# EAGLE library part HDLX2416 (library display-hp)
LED DISPLAY 4-character dot matrix
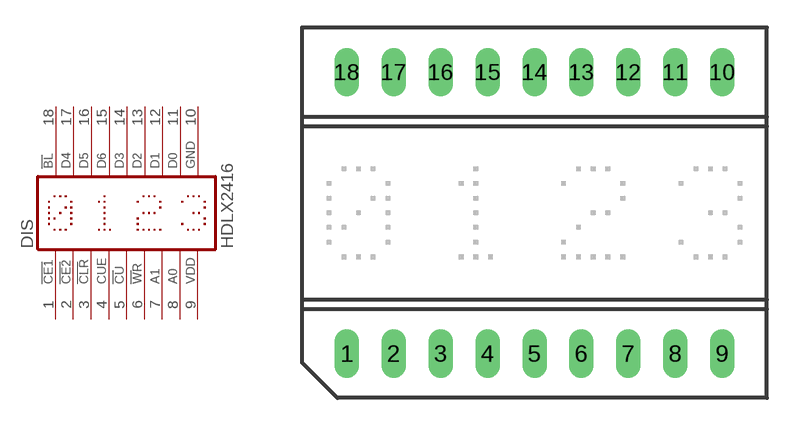
[diagram p2: symbol with the pads of HDLX2416; footprint HDLX2416]

Designator prefix DIS

## HDLX2416  [HDLX2416]
1  !CE1  in
2  !CE2  in
3  !CLR  in
4  CUE  in
5  !CU  in
6  !WR  in
7  A1  in
8  A0  in
9  VDD  pwr
10  GND  pwr
11  D0  in
12  D1  in
13  D2  in
14  D3  in
15  D6  in
16  D5  in
17  D4  in
18  !BL  in

## Footprint HDLX2416 (pad centres in mm)
LED DISPLAY 5-mm 4 character dot matrix without decimal point
drill 0.813 long: 1 -10.16,-7.62; 2 -7.62,-7.62; 3 -5.08,-7.62; 4 -2.54,-7.62; 5 0,-7.62; 6 2.54,-7.62; 7 5.08,-7.62; 8 7.62,-7.62; 9 10.16,-7.62; 10 10.16,7.62; 11 7.62,7.62; 12 5.08,7.62; 13 2.54,7.62; 14 0,7.62; 15 -2.54,7.62; 16 -5.08,7.62; 17 -7.62,7.62; 18 -10.16,7.62